# EAGLE library part MOTION/POSITION-H3LIS331DL (library Seeed-OPL-sensor)
314080015
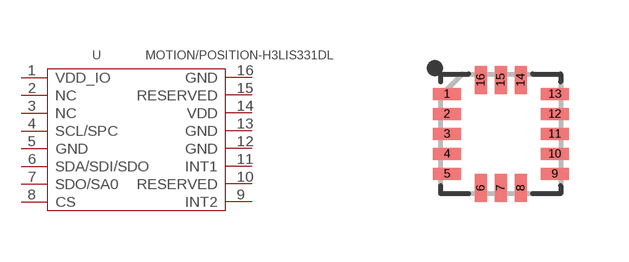
[diagram p21: symbol with the pads of LGA16-0.5-3X3MM; footprint LGA16-0.5-3X3MM]

Designator prefix U

## MOTION/POSITION-H3LIS331DL  [LGA16-0.5-3X3MM]
1  VDD_IO
2  NC
3  NC
4  SCL/SPC
5  GND
6  SDA/SDI/SDO
7  SDO/SA0
8  CS
9  INT2
10  RESERVED
11  INT1
12  GND
13  GND
14  VDD
15  RESERVED
16  GND

## Footprint LGA16-0.5-3X3MM (pad centres in mm)
smd 0.7 x 0.3: 1 -1.35,1; 2 -1.35,0.5; 3 -1.35,0; 4 -1.35,-0.5; 5 -1.35,-1; 9 1.35,-1; 10 1.35,-0.5; 11 1.35,0; 12 1.35,0.5; 13 1.35,1
smd 0.3 x 0.7: 6 -0.5,-1.35; 7 0,-1.35; 8 0.5,-1.35; 14 0.5,1.35; 15 0,1.35; 16 -0.5,1.35